# Altium footprint library BGA_416.PcbLib: 1 footprints
Each footprint in its own frame and in the unit in brackets; x right, y up, seen from the top. Pads: shape width x height; smd on the part's side, far side on the other; paste and mask are expansions set on the pad; w line width, h text height; cw(c..) or ccw(c..) is an arc to the next point about the centre after c.
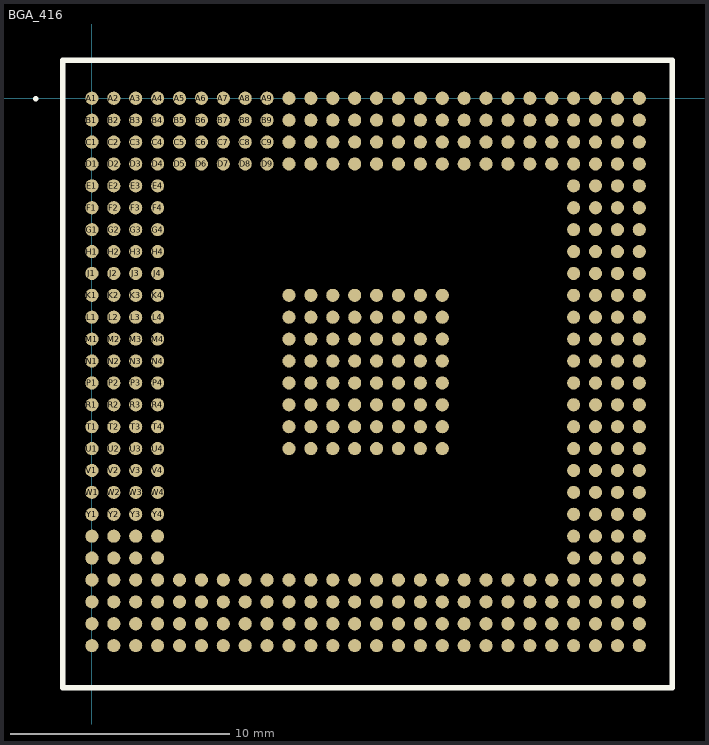
[diagram p0: the footprint, top view; thin cyan lines are the x and y axes]

## BGA_416 [mm]
height 0.254
pads (416):
  round 0.6 smd: A1(0.009,0.007) A2(1.009,0.007) A3(2.009,0.007) A4(3.009,0.007) A5(4.009,0.007) A6(5.009,0.007) A7(6.009,0.007) A8(7.009,0.007) A9(8.009,0.007) A10(9.009,0.007) A11(10.009,0.007) A12(11.009,0.007) A13(12.009,0.007) A14(13.009,0.007) A15(14.009,0.007) A16(15.009,0.007) A17(16.009,0.007) A18(17.009,0.007) A19(18.009,0.007) A20(19.009,0.007) A21(20.009,0.007) A22(21.009,0.007) A23(22.009,0.007) A24(23.009,0.007) A25(24.009,0.007) A26(25.009,0.007) AA1(0.009,-19.993) AA2(1.009,-19.993) AA3(2.009,-19.993) AA4(3.009,-19.993) AA23(22.009,-19.993) AA24(23.009,-19.993) AA25(24.009,-19.993) AA26(25.009,-19.993) AB1(0.009,-20.993) AB2(1.009,-20.993) AB3(2.009,-20.993) AB4(3.009,-20.993) AB23(22.009,-20.993) AB24(23.009,-20.993) AB25(24.009,-20.993) AB26(25.009,-20.993) AC1(0.009,-21.993) AC2(1.009,-21.993) AC3(2.009,-21.993) AC4(3.009,-21.993) AC5(4.009,-21.993) AC6(5.009,-21.993) AC7(6.009,-21.993) AC8(7.009,-21.993) AC9(8.009,-21.993) AC10(9.009,-21.993) AC11(10.009,-21.993) AC12(11.009,-21.993) AC13(12.009,-21.993) AC14(13.009,-21.993) AC15(14.009,-21.993) AC16(15.009,-21.993) AC17(16.009,-21.993) AC18(17.009,-21.993) AC19(18.009,-21.993) AC20(19.009,-21.993) AC21(20.009,-21.993) AC22(21.009,-21.993) AC23(22.009,-21.993) AC24(23.009,-21.993) AC25(24.009,-21.993) AC26(25.009,-21.993) AD1(0.009,-22.993) AD2(1.009,-22.993) AD3(2.009,-22.993) AD4(3.009,-22.993) AD5(4.009,-22.993) AD6(5.009,-22.993) AD7(6.009,-22.993) AD8(7.009,-22.993) AD9(8.009,-22.993) AD10(9.009,-22.993) AD11(10.009,-22.993) AD12(11.009,-22.993) AD13(12.009,-22.993) AD14(13.009,-22.993) AD15(14.009,-22.993) AD16(15.009,-22.993) AD17(16.009,-22.993) AD18(17.009,-22.993) AD19(18.009,-22.993) AD20(19.009,-22.993) AD21(20.009,-22.993) AD22(21.009,-22.993) AD23(22.009,-22.993) AD24(23.009,-22.993) AD25(24.009,-22.993) AD26(25.009,-22.993) AE1(0.009,-23.993) AE2(1.009,-23.993) AE3(2.009,-23.993) AE4(3.009,-23.993) AE5(4.009,-23.993) AE6(5.009,-23.993) AE7(6.009,-23.993) AE8(7.009,-23.993) AE9(8.009,-23.993) AE10(9.009,-23.993) AE11(10.009,-23.993) AE12(11.009,-23.993) AE13(12.009,-23.993) AE14(13.009,-23.993) AE15(14.009,-23.993) AE16(15.009,-23.993) AE17(16.009,-23.993) AE18(17.009,-23.993) AE19(18.009,-23.993) AE20(19.009,-23.993) AE21(20.009,-23.993) AE22(21.009,-23.993) AE23(22.009,-23.993) AE24(23.009,-23.993) AE25(24.009,-23.993) AE26(25.009,-23.993) AF1(0.009,-24.993) AF2(1.009,-24.993) AF3(2.009,-24.993) AF4(3.009,-24.993) AF5(4.009,-24.993) AF6(5.009,-24.993) AF7(6.009,-24.993) AF8(7.009,-24.993) AF9(8.009,-24.993) AF10(9.009,-24.993) AF11(10.009,-24.993) AF12(11.009,-24.993) AF13(12.009,-24.993) AF14(13.009,-24.993) AF15(14.009,-24.993) AF16(15.009,-24.993) AF17(16.009,-24.993) AF18(17.009,-24.993) AF19(18.009,-24.993) AF20(19.009,-24.993) AF21(20.009,-24.993) AF22(21.009,-24.993) AF23(22.009,-24.993) AF24(23.009,-24.993) AF25(24.009,-24.993) AF26(25.009,-24.993) B1(0.009,-0.993) B2(1.009,-0.993) B3(2.009,-0.993) B4(3.009,-0.993) B5(4.009,-0.993) B6(5.009,-0.993) B7(6.009,-0.993) B8(7.009,-0.993) B9(8.009,-0.993) B10(9.009,-0.993) B11(10.009,-0.993) B12(11.009,-0.993) B13(12.009,-0.993) B14(13.009,-0.993) B15(14.009,-0.993) B16(15.009,-0.993) B17(16.009,-0.993) B18(17.009,-0.993) B19(18.009,-0.993) B20(19.009,-0.993) B21(20.009,-0.993) B22(21.009,-0.993) B23(22.009,-0.993) B24(23.009,-0.993) B25(24.009,-0.993) B26(25.009,-0.993) C1(0.009,-1.993) C2(1.009,-1.993) C3(2.009,-1.993) C4(3.009,-1.993) C5(4.009,-1.993) C6(5.009,-1.993) C7(6.009,-1.993) C8(7.009,-1.993) C9(8.009,-1.993) C10(9.009,-1.993) C11(10.009,-1.993) C12(11.009,-1.993) C13(12.009,-1.993) C14(13.009,-1.993) C15(14.009,-1.993) C16(15.009,-1.993) C17(16.009,-1.993) C18(17.009,-1.993) C19(18.009,-1.993) C20(19.009,-1.993) C21(20.009,-1.993) C22(21.009,-1.993) C23(22.009,-1.993) C24(23.009,-1.993) C25(24.009,-1.993) C26(25.009,-1.993) D1(0.009,-2.993) D2(1.009,-2.993) D3(2.009,-2.993) D4(3.009,-2.993) D5(4.009,-2.993) D6(5.009,-2.993) D7(6.009,-2.993) D8(7.009,-2.993) D9(8.009,-2.993) D10(9.009,-2.993) D11(10.009,-2.993) D12(11.009,-2.993) D13(12.009,-2.993) D14(13.009,-2.993) D15(14.009,-2.993) D16(15.009,-2.993) D17(16.009,-2.993) D18(17.009,-2.993) D19(18.009,-2.993) D20(19.009,-2.993) D21(20.009,-2.993) D22(21.009,-2.993) D23(22.009,-2.993) D24(23.009,-2.993) D25(24.009,-2.993) D26(25.009,-2.993) E1(0.009,-3.993) E2(1.009,-3.993) E3(2.009,-3.993) E4(3.009,-3.993) E23(22.009,-3.993) E24(23.009,-3.993) E25(24.009,-3.993) E26(25.009,-3.993) F1(0.009,-4.993) F2(1.009,-4.993) F3(2.009,-4.993) F4(3.009,-4.993) F23(22.009,-4.993) F24(23.009,-4.993) F25(24.009,-4.993) F26(25.009,-4.993) G1(0.009,-5.993) G2(1.009,-5.993) G3(2.009,-5.993) G4(3.009,-5.993) G23(22.009,-5.993) G24(23.009,-5.993) G25(24.009,-5.993) G26(25.009,-5.993) H1(0.009,-6.993) H2(1.009,-6.993) H3(2.009,-6.993) H4(3.009,-6.993) H23(22.009,-6.993) H24(23.009,-6.993) H25(24.009,-6.993) H26(25.009,-6.993) J1(0.009,-7.993) J2(1.009,-7.993) J3(2.009,-7.993) J4(3.009,-7.993) J23(22.009,-7.993) J24(23.009,-7.993) J25(24.009,-7.993) J26(25.009,-7.993) K1(0.009,-8.993) K2(1.009,-8.993) K3(2.009,-8.993) K4(3.009,-8.993) K10(9.009,-8.993) K11(10.009,-8.993) K12(11.009,-8.993) K13(12.009,-8.993) K14(13.009,-8.993) K15(14.009,-8.993) K16(15.009,-8.993) K17(16.009,-8.993) K23(22.009,-8.993) K24(23.009,-8.993) K25(24.009,-8.993) K26(25.009,-8.993) L1(0.009,-9.993) L2(1.009,-9.993) L3(2.009,-9.993) L4(3.009,-9.993) L10(9.009,-9.993) L11(10.009,-9.993) L12(11.009,-9.993) L13(12.013,-9.993) L14(13.009,-9.993) L15(14.009,-9.993) L16(15.009,-9.993) L17(16.009,-9.993) L23(22.009,-9.993) L24(23.009,-9.993) L25(24.009,-9.993) L26(25.009,-9.993) M1(0.009,-10.993) M2(1.009,-10.993) M3(2.009,-10.993) M4(3.009,-10.993) M10(9.009,-10.993) M11(10.009,-10.993) M12(11.009,-10.993) M13(12.009,-10.993) M14(13.009,-10.993) M15(14.009,-10.993) M16(15.009,-10.993) M17(16.009,-10.993) M23(22.009,-10.993) M24(23.009,-10.993) M25(24.009,-10.993) M26(25.009,-10.993) N1(0.009,-11.993) N2(1.009,-11.993) N3(2.009,-11.993) N4(3.009,-11.993) N10(9.009,-11.993) N11(10.009,-11.993) N12(11.009,-11.993) N13(12.009,-11.993) N14(13.009,-11.993) N15(14.009,-11.993) N16(15.009,-11.993) N17(16.009,-11.993) N23(22.009,-11.993) N24(23.009,-11.993) N25(24.009,-11.993) N26(25.009,-11.993) P1(0.009,-12.993) P2(1.009,-12.993) P3(2.009,-12.993) P4(3.009,-12.993) P10(9.009,-12.993) P11(10.009,-12.993) P12(11.009,-12.993) P13(12.009,-12.993) P14(13.009,-12.993) P15(14.009,-12.993) P16(15.009,-12.993) P17(16.009,-12.993) P23(22.009,-12.993) P24(23.009,-12.993) P25(24.009,-12.993) P26(25.009,-12.993) R1(0.009,-13.993) R2(1.009,-13.993) R3(2.009,-13.993) R4(3.009,-13.993) R10(9.009,-13.993) R11(10.009,-13.993) R12(11.009,-13.993) R13(12.009,-13.993) R14(13.009,-13.993) R15(14.009,-13.993) R16(15.009,-13.993) R17(16.009,-13.993) R23(22.009,-13.993) R24(23.009,-13.993) R25(24.009,-13.993) R26(25.009,-13.993) T1(0.009,-14.993) T2(1.009,-14.993) T3(2.009,-14.993) T4(3.009,-14.993) T10(9.009,-14.993) T11(10.009,-14.993) T12(11.009,-14.993) T13(12.009,-14.993) T14(13.009,-14.993) T15(14.009,-14.993) T16(15.009,-14.993) T17(16.009,-14.993) T23(22.009,-14.993) T24(23.009,-14.993) T25(24.009,-14.993) T26(25.009,-14.993) U1(0.009,-15.993) U2(1.009,-15.993) U3(2.009,-15.993) U4(3.009,-15.993) U10(9.009,-15.993) U11(10.009,-15.993) U12(11.009,-15.993) U13(12.009,-15.993) U14(13.009,-15.993) U15(14.009,-15.993) U16(15.009,-15.993) U17(16.009,-15.993) U23(22.009,-15.993) U24(23.009,-15.993) U25(24.009,-15.993) U26(25.009,-15.993) V1(0.009,-16.993) V2(1.009,-16.993) V3(2.009,-16.993) V4(3.009,-16.993) V23(22.009,-16.993) V24(23.009,-16.993) V25(24.009,-16.993) V26(25.009,-16.993) W1(0.009,-17.993) W2(1.009,-17.993) W3(2.009,-17.993) W4(3.009,-17.993) W23(22.009,-17.993) W24(23.009,-17.993) W25(24.009,-17.993) W26(25.009,-17.993) Y1(0.009,-18.993) Y2(1.009,-18.993) Y3(2.009,-18.993) Y4(3.009,-18.993) Y23(22.009,-18.993) Y24(23.009,-18.993) Y25(24.009,-18.993) Y26(25.009,-18.993)
TopOverlay:
  lines w0.254: -2.554,-0.012 -2.554,-0.011 ; -1.333,-26.924 -1.333,1.751 26.509,1.751 26.509,-26.924 -1.333,-26.924
BottomOverlay:
  text "AE" at 27.125,-24.501 h0.76
  text "AD" at 27.076,-23.521 h0.76
  text "AC" at 27.101,-22.517 h0.76
  text "AB" at 27.15,-21.562 h0.76
  text "AA" at 27.15,-20.607 h0.76
  text "Y" at 27.199,-19.627 h0.76
  text "W" at 27.174,-18.599 h0.76
  text "V" at 27.125,-17.546 h0.76
  text "U" at 27.321,-16.566 h0.76
  text "T" at 27.125,-15.537 h0.76
  text "R" at 27.15,-14.582 h0.76
  text "P" at 27.223,-13.554 h0.76
  text "N" at 27.199,-12.598 h0.76
  text "M" at 27.15,-11.521 h0.76
  text "L" at 27.174,-10.492 h0.76
  text "K" at 27.223,-9.488 h0.76
  text "J" at 27.15,-8.484 h0.76
  text "H" at 27.272,-7.333 h0.76
  text "G" at 27.321,-6.427 h0.76
  text "F" at 27.321,-5.472 h0.76
  text "E" at 27.37,-4.394 h0.76
  text "D" at 27.272,-3.415 h0.76
  text "C" at 27.346,-2.337 h0.76
  text "B" at 27.37,-1.308 h0.76
  text "A" at 27.419,-0.255 h0.76
  text "AF" at 27.125,-25.431 h0.76
  text "26" at 25.531,-25.654 h0.76
  text "25" at 24.515,-25.654 h0.76
  text "24" at 23.499,-25.654 h0.76
  text "23" at 22.483,-25.654 h0.76
  text "22" at 21.467,-25.654 h0.76
  text "21" at 20.451,-25.654 h0.76
  text "20" at 19.435,-25.654 h0.76
  text "19" at 18.419,-25.654 h0.76
  text "17" at 16.387,-25.654 h0.76
  text "18" at 17.403,-25.654 h0.76
  text "16" at 15.371,-25.654 h0.76
  text "15" at 14.355,-25.654 h0.76
  text "14" at 13.339,-25.654 h0.76
  text "13" at 12.323,-25.654 h0.76
  text "12" at 11.307,-25.654 h0.76
  text "11" at 10.291,-25.654 h0.76
  text "10" at 9.275,-25.654 h0.76
  text "9" at 8.259,-25.654 h0.76
  text "8" at 7.243,-25.654 h0.76
  text "7" at 6.227,-25.654 h0.76
  text "6" at 5.211,-25.654 h0.76
  text "5" at 4.195,-25.654 h0.76
  text "4" at 3.433,-25.654 h0.76
  text "3" at 2.417,-25.654 h0.76
  text "2" at 1.401,-25.654 h0.76
  text "1" at 0.385,-25.661 h0.76
  text "AF" at -1.014,-25.309 h0.76
  text "A" at -0.72,-0.133 h0.76
  text "B" at -0.769,-1.186 h0.76
  text "C" at -0.794,-2.214 h0.76
  text "D" at -0.867,-3.292 h0.76
  text "E" at -0.769,-4.272 h0.76
  text "F" at -0.818,-5.349 h0.76
  text "G" at -0.818,-6.304 h0.76
  text "H" at -0.867,-7.211 h0.76
  text "J" at -0.99,-8.362 h0.76
  text "K" at -0.916,-9.366 h0.76
  text "L" at -0.965,-10.37 h0.76
  text "M" at -0.99,-11.398 h0.76
  text "N" at -0.941,-12.476 h0.76
  text "P" at -0.916,-13.431 h0.76
  text "R" at -0.99,-14.46 h0.76
  text "T" at -1.014,-15.415 h0.76
  text "U" at -0.818,-16.443 h0.76
  text "V" at -1.014,-17.423 h0.76
  text "W" at -0.965,-18.476 h0.76
  text "Y" at -0.941,-19.505 h0.76
  text "AA" at -0.99,-20.484 h0.76
  text "AB" at -0.99,-21.439 h0.76
  text "AC" at -1.039,-22.395 h0.76
  text "AD" at -1.063,-23.399 h0.76
  text "AE" at -1.014,-24.378 h0.76
  text "1" at 0.428,1.908 h0.76
  text "2" at 1.444,1.915 h0.76
  text "3" at 2.46,1.915 h0.76
  text "4" at 3.476,1.915 h0.76
  text "5" at 4.238,1.915 h0.76
  text "6" at 5.254,1.915 h0.76
  text "7" at 6.27,1.915 h0.76
  text "8" at 7.286,1.915 h0.76
  text "9" at 8.302,1.915 h0.76
  text "10" at 9.318,1.915 h0.76
  text "11" at 10.334,1.915 h0.76
  text "12" at 11.35,1.915 h0.76
  text "13" at 12.366,1.915 h0.76
  text "14" at 13.382,1.915 h0.76
  text "15" at 14.398,1.915 h0.76
  text "16" at 15.414,1.915 h0.76
  text "18" at 17.446,1.915 h0.76
  text "17" at 16.43,1.915 h0.76
  text "19" at 18.462,1.915 h0.76
  text "20" at 19.478,1.915 h0.76
  text "21" at 20.494,1.915 h0.76
  text "22" at 21.51,1.915 h0.76
  text "23" at 22.526,1.915 h0.76
  text "24" at 23.542,1.915 h0.76
  text "25" at 24.558,1.915 h0.76
  text "26" at 25.574,1.915 h0.76